# Altium footprint library CE_8x20.PcbLib: 1 footprints
Each footprint in its own frame and in the unit in brackets; x right, y up, seen from the top. Pads: shape width x height; smd on the part's side, far side on the other; paste and mask are expansions set on the pad; w line width, h text height; cw(c..) or ccw(c..) is an arc to the next point about the centre after c.
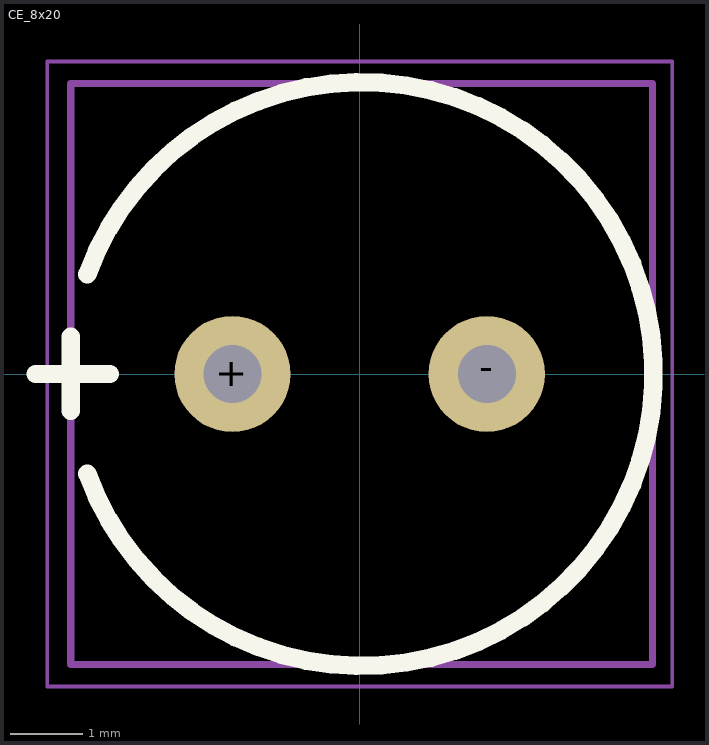
[diagram p0: the footprint, top view; thin cyan lines are the x and y axes]

## CE_8x20 [mm]
height 20
pads (2):
  round 1.6 hole 0.8: +(-1.75,0) -(1.75,0)
Top Overlay:
  lines w0.254: -4.455,0 -3.439,0 ; -3.974,-0.504 -3.974,0.512 ; -3.746,-1.374 ccw(c0.028,0) -3.746,1.374
Top Assembly:
  lines w0.1: -3.974,-3.998 4.028,-3.998 4.028,3.998 -3.974,3.998 -3.974,-3.998
Top Courtyard:
  lines w0.05: -4.3,-4.3 4.3,-4.3 4.3,4.3 -4.3,4.3 -4.3,-4.3
Top Designator:
  text ".Designator" at -7.618,-0.508 h1.52
3D body "Aluminum_electrolytic_capacitor_radial_D8_H20_PinD0.6_Pitch3.5_nominal_black.step": height 20, standoff -3, extent -3.963,-3.992 4.028,3.992